# Altium schematic symbol library szh-ek101.SchLib: 1 symbol
Pins are listed as number, name and electrical type; pins without a type are passive.

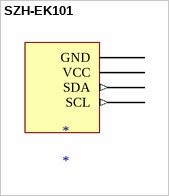
[diagram p0: symbol SZH-EK101]

## SZH-EK101
designator *
pins: 1 GND (power), 2 VCC (power), 3 SDA (out), 4 SCL (out)